# Altium footprint library ADA4505-2.PcbLib: 1 footprints
Each footprint in its own frame and in the unit in brackets; x right, y up, seen from the top. Pads: shape width x height; smd on the part's side, far side on the other; paste and mask are expansions set on the pad; w line width, h text height; cw(c..) or ccw(c..) is an arc to the next point about the centre after c.
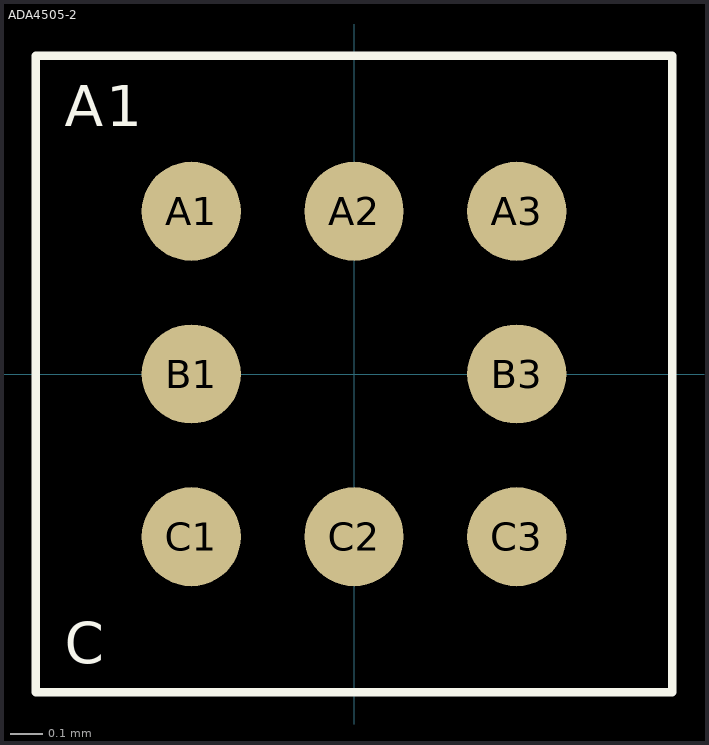
[diagram p0: the footprint, top view; thin cyan lines are the x and y axes]

## ADA4505-2 [mil]
pads (8):
  round 12 smd: A1(-19.68,19.68) A2(0,19.68) A3(19.68,19.68) B1(-19.68,0) B3(19.68,0) C1(-19.68,-19.68) C2(0,-19.68) C3(19.68,-19.68)
Top Overlay:
  lines w1: -38.5,-38.5 38.5,-38.5 38.5,38.5 -38.5,38.5 -38.5,-38.5
  text "1" at -30,30 h5
  text "C" at -35,-35 h5
  text "A" at -35,30 h5
Mechanical 13:
3D body: height 6, standoff 0, extent -35,-40 35,40